# Altium schematic symbol library Logo.SchLib: 2 symbols
Pins are listed as number, name and electrical type; pins without a type are passive.

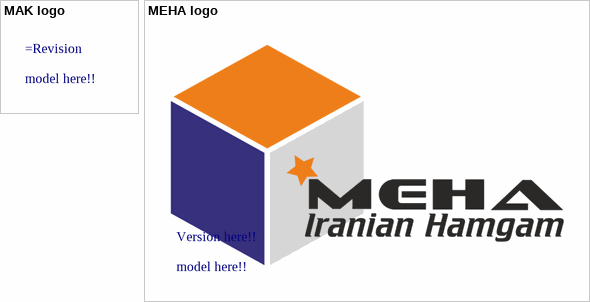
[diagram p0: symbols MAK logo to MEHA logo]

## MAK logo
designator =Revision, comment model here!!  (no BOM)

## MEHA logo
designator Version here!!, comment model here!!  (no BOM)